# Altium footprint library J 接插件.PcbLib: 458 footprints (part 18 of 29)
Each footprint in its own frame and in the unit in brackets; x right, y up, seen from the top. Pads: shape width x height; smd on the part's side, far side on the other; paste and mask are expansions set on the pad; w line width, h text height; cw(c..) or ccw(c..) is an arc to the next point about the centre after c.
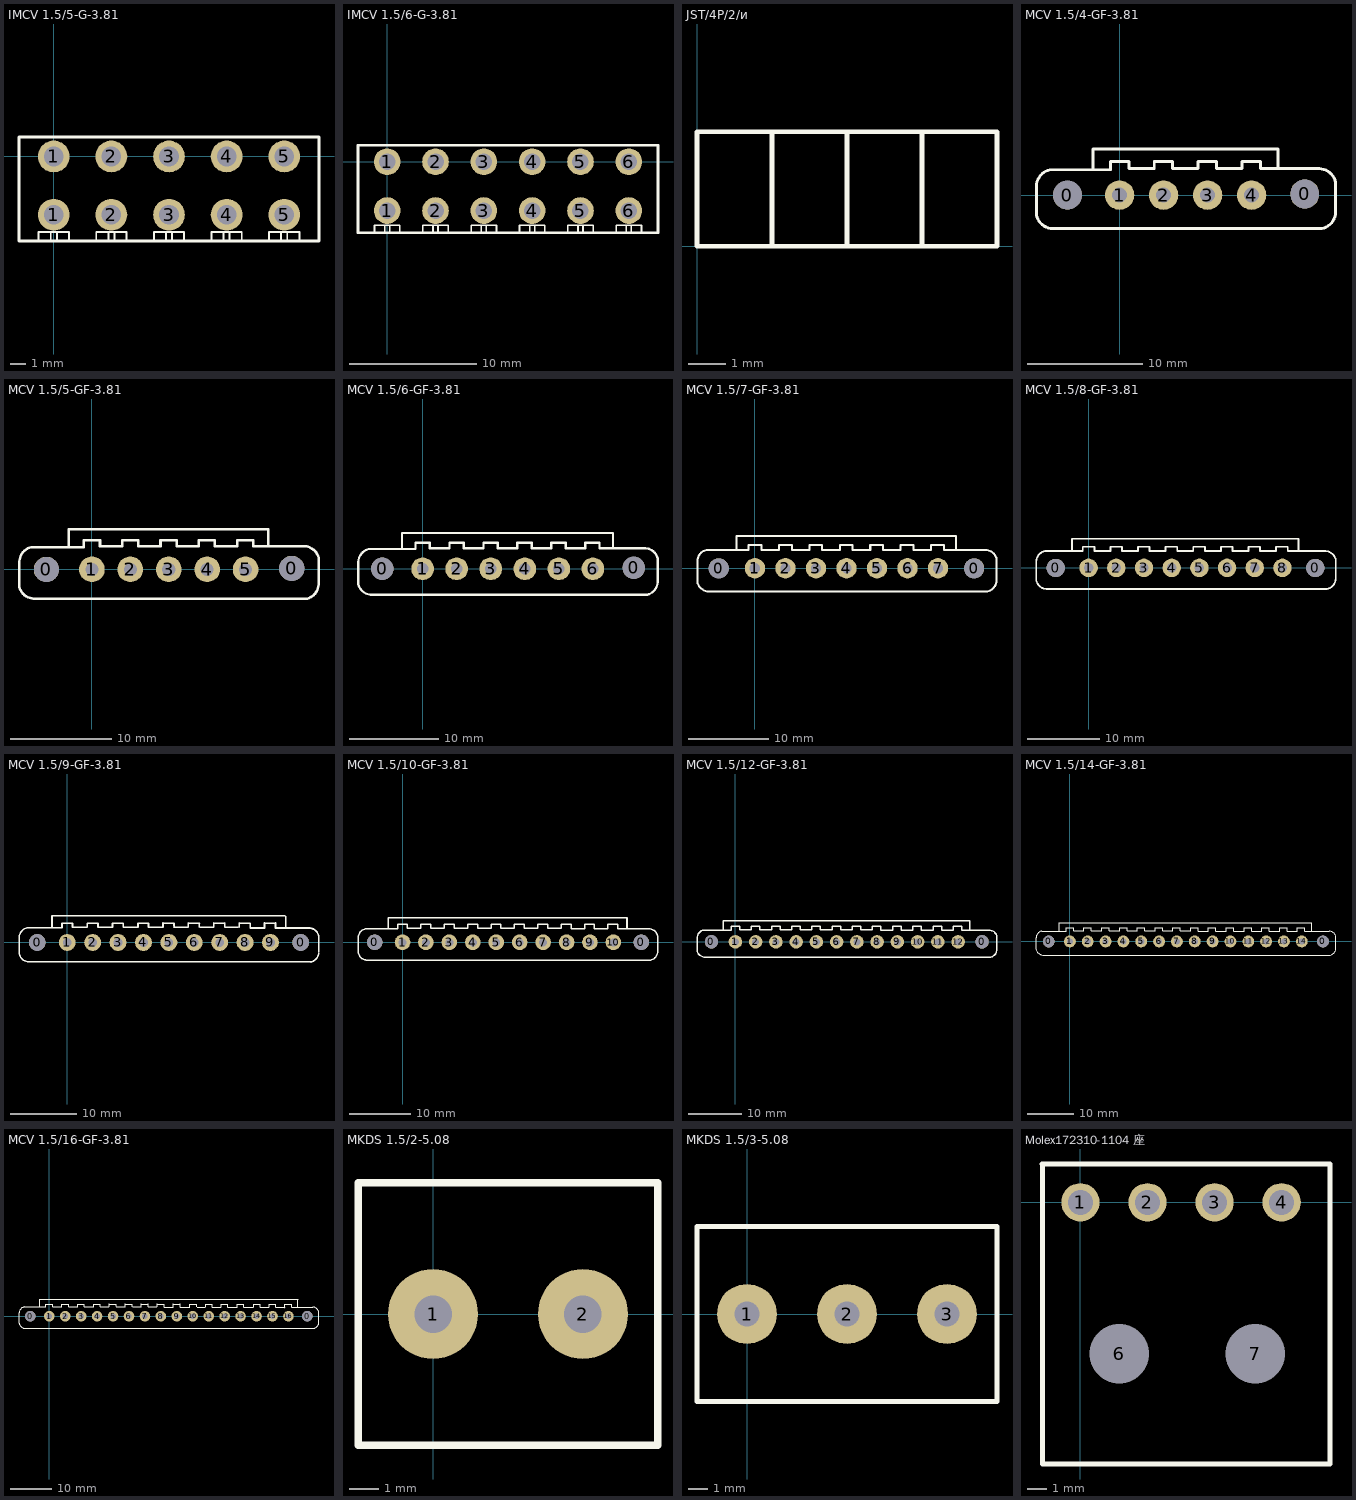
[diagram p17: the footprints below, top view; thin cyan lines are the x and y axes]

## IMCV 1.5/5-G-3.81 [mm] "菲尼克斯端子-3.81"
pads (10):
  round 2.1 hole 1.3: 1(0,-3.85) 1(0,0) 2(3.81,-3.85) 2(3.81,0) 3(7.62,-3.85) 3(7.62,0) 4(11.43,-3.85) 4(11.43,0) 5(15.24,-3.85) 5(15.24,0)
Top Overlay:
  lines w0.127: -1,-5.6 -1,-5 1,-5 1,-5.5 1,-5.6 ; -0.2,-5.6 -0.2,-5 ; 0.2,-5.5 0.2,-5 ; 2.81,-5.6 2.81,-5 4.81,-5 4.81,-5.5 4.81,-5.6 ; 3.61,-5.6 3.61,-5 ; 4.01,-5.5 4.01,-5 ; 6.62,-5.6 6.62,-5 8.62,-5 8.62,-5.5 8.62,-5.6 ; 7.42,-5.6 7.42,-5 ; 7.82,-5.5 7.82,-5 ; 10.43,-5.6 10.43,-5 12.43,-5 12.43,-5.5 12.43,-5.6 ; 11.23,-5.6 11.23,-5 ; 11.63,-5.5 11.63,-5 ; 14.24,-5.6 14.24,-5 16.24,-5 16.24,-5.5 16.24,-5.6 ; 15.04,-5.6 15.04,-5 ; 15.44,-5.5 15.44,-5
  lines w0.203: -2.3,-5.6 -2.3,1.3 17.54,1.3 17.54,-5.6 -2.3,-5.6

## IMCV 1.5/6-G-3.81 [mm] "菲尼克斯端子-3.81"
pads (12):
  round 2.1 hole 1.3: 1(0,-3.85) 1(0,0) 2(3.81,-3.85) 2(3.81,0) 3(7.62,-3.85) 3(7.62,0) 4(11.43,-3.85) 4(11.43,0) 5(15.24,-3.85) 5(15.24,0) 6(19.05,-3.85) 6(19.05,0)
Top Overlay:
  lines w0.127: -1,-5.6 -1,-5 1,-5 1,-5.5 1,-5.6 ; -0.2,-5.6 -0.2,-5 ; 0.2,-5.5 0.2,-5 ; 2.81,-5.6 2.81,-5 4.81,-5 4.81,-5.5 4.81,-5.6 ; 3.61,-5.6 3.61,-5 ; 4.01,-5.5 4.01,-5 ; 6.62,-5.6 6.62,-5 8.62,-5 8.62,-5.5 8.62,-5.6 ; 7.42,-5.6 7.42,-5 ; 7.82,-5.5 7.82,-5 ; 10.43,-5.6 10.43,-5 12.43,-5 12.43,-5.5 12.43,-5.6 ; 11.23,-5.6 11.23,-5 ; 11.63,-5.5 11.63,-5 ; 14.24,-5.6 14.24,-5 16.24,-5 16.24,-5.5 16.24,-5.6 ; 15.04,-5.6 15.04,-5 ; 15.44,-5.5 15.44,-5 ; 18.05,-5.6 18.05,-5 20.05,-5 20.05,-5.5 20.05,-5.6 ; 18.85,-5.6 18.85,-5 ; 19.25,-5.5 19.25,-5
  lines w0.203: 21.336,1.3 -2.3,1.3 -2.3,-5.6 21.35,-5.6 21.35,1.3

## JST/4P/2/ͷ [mil] "接插件"
height 86.61
Top Overlay:
  lines w5: 78.74,0 78.74,120.08 ; 157.48,0 157.48,120.08 ; 236.22,0 236.22,120.08 ; 0,0 314.96,0 314.96,120.08 0,120.08 0,0

## MCV 1.5/4-GF-3.81 [mm] "接线端子"
height 23
pads (6):
  round 2.5 hole 2.5: 0(-4.521,0) 0(16.031,0.1)
  round 2.54 hole 1.3: 1(0,0) 2(3.81,0) 3(7.62,0) 4(11.43,0)
Top Overlay:
  lines w0.254: -7.201,-1.724 ccw(c-5.736,-1.401) -5.8,-2.9 17.5,-2.9 ; -7.2,-1.7 -7.2,0.8 cw(c-5.701,0.736) -6.024,2.201 ; -6,2.2 -2.3,2.2 ; -0.254,-2.9 0.254,-2.9 ; -0.254,4 0.254,4 ; 13.675,4 -2.3,4 -2.3,2.2 ; 13.7,4 13.7,2.3 ; 17.299,2.3 13.7,2.3 ; 17.3,2.3 cw(c17.236,0.801) 18.701,1.124 ; 17.525,-2.9 ccw(c17.202,-1.435) 18.701,-1.499 ; 18.7,-1.5 18.7,1.124 ; -2.3,2.2 -0.8,2.2 -0.8,2.9 0.8,2.9 0.8,2.3 3,2.3 3,2.9 4.6,2.9 4.6,2.3 6.8,2.3 6.8,2.9 8.4,2.9 8.4,2.3 10.6,2.3 10.6,2.9 12.2,2.9 12.2,2.3 13.7,2.3

## MCV 1.5/5-GF-3.81 [mm]
pads (7):
  round 2.5 hole 2.5: 0(-4.521,0) 0(19.821,0.1)
  round 2.54 hole 1.3: 1(0,0) 2(3.81,0) 3(7.62,0) 4(11.43,0) 5(15.24,0)
Top Overlay:
  lines w0.254: -7.201,-1.724 ccw(c-5.736,-1.401) -5.8,-2.9 21.336,-2.9 ; -7.2,-1.7 -7.2,0.8 cw(c-5.701,0.736) -6.024,2.201 ; -6,2.2 -2.3,2.2 ; -4.521,-0.254 -4.521,0.254 ; -0.254,-2.9 0.254,-2.9 ; -0.254,4 0.254,4 ; 18.2,2.3 16,2.3 16,2.9 14.4,2.9 14.4,2.3 12.2,2.3 12.2,2.9 10.6,2.9 10.6,2.3 8.4,2.3 8.4,2.9 6.8,2.9 6.8,2.3 4.6,2.3 4.6,2.9 3,2.9 3,2.3 0.8,2.3 0.8,2.9 -0.8,2.9 -0.8,2.2 -2.3,2.2 ; 19.8,2.3 21.3,2.3 ; 21.089,2.3 17.49,2.3 17.49,4 -2.3,4 -2.3,2.2 ; 21.09,2.3 cw(c21.026,0.801) 22.491,1.124 22.49,-1.5 ; 21.315,-2.9 ccw(c20.992,-1.435) 22.491,-1.499

## MCV 1.5/6-GF-3.81 [mm] "接线端子"
height 23
pads (8):
  round 2.5 hole 2.5: 0(-4.521,0) 0(23.631,0.1)
  round 2.54 hole 1.3: 1(0,0) 2(3.81,0) 3(7.62,0) 4(11.43,0) 5(15.24,0) 6(19.05,0)
Top Overlay:
  lines w0.254: -7.201,-1.724 ccw(c-5.736,-1.401) -5.8,-2.9 25.1,-2.9 ; -7.2,-1.7 -7.2,0.8 cw(c-5.701,0.736) -6.024,2.201 ; -6,2.2 -2.3,2.2 ; -4.521,-0.254 -4.521,0.254 ; -0.254,-2.9 0.254,-2.9 ; -0.254,4 0.254,4 ; 24.899,2.3 21.3,2.3 ; 24.9,2.3 cw(c24.836,0.801) 26.301,1.124 26.3,-1.5 ; 25.125,-2.9 ccw(c24.802,-1.435) 26.301,-1.499 ; -2.3,2.2 -2.3,4 21.3,4 21.3,2.3 ; -2.3,2.2 -0.8,2.2 -0.8,2.9 0.8,2.9 0.8,2.3 3,2.3 3,2.9 4.6,2.9 4.6,2.3 6.8,2.3 6.8,2.9 8.4,2.9 8.4,2.3 10.6,2.3 10.6,2.9 12.2,2.9 12.2,2.3 14.4,2.3 14.4,2.9 16,2.9 16,2.3 18.2,2.3 18.2,2.9 19.8,2.9 19.8,2.3 21.3,2.3

## MCV 1.5/7-GF-3.81 [mm]
pads (9):
  round 2.5 hole 2.5: 0(-4.521,0) 0(27.381,0)
  round 2.54 hole 1.3: 1(0,0) 2(3.81,0) 3(7.62,0) 4(11.43,0) 5(15.24,0) 6(19.05,0) 7(22.86,0)
Top Overlay:
  lines w0.254: -7.201,-1.724 ccw(c-5.736,-1.401) -5.8,-2.9 29.015,-2.9 ccw(c28.692,-1.435) 30.191,-1.499 30.191,1.024 ; -7.2,-1.7 -7.2,0.9 cw(c-5.701,0.836) -6.024,2.301 ; -6,2.3 -2.3,2.3 ; -4.521,-0.254 -4.521,0.254 ; -0.254,-2.9 0.254,-2.9 ; -0.254,4 0.254,4 ; 21.99,2.3 21.99,2.9 23.59,2.9 23.59,2.3 25.09,2.3 ; 25.8,2.3 23.6,2.3 23.6,2.9 22,2.9 22,2.3 19.8,2.3 19.8,2.9 18.2,2.9 18.2,2.3 16,2.3 16,2.9 14.4,2.9 14.4,2.3 12.2,2.3 12.2,2.9 10.6,2.9 10.6,2.3 8.4,2.3 8.4,2.9 6.8,2.9 6.8,2.3 4.6,2.3 4.6,2.9 3,2.9 3,2.3 0.8,2.3 0.8,2.9 -0.8,2.9 -0.8,2.3 -2.3,2.3 ; 27.4,2.3 28.9,2.3 ; 30.191,1.124 ccw(c28.726,0.801) 28.79,2.3 25.09,2.3 ; -2.3,2.3 -2.3,4 25.09,4 25.09,2.3

## MCV 1.5/8-GF-3.81 [mm] "接线端子"
height 23
pads (10):
  round 2.5 hole 2.5: 0(-4.521,0) 0(31.191,0)
  round 2.54 hole 1.3: 1(0,0) 2(3.81,0) 3(7.62,0) 4(11.43,0) 5(15.24,0) 6(19.05,0) 7(22.86,0) 8(26.67,0)
Top Overlay:
  lines w0.254: -7.201,-1.724 ccw(c-5.736,-1.401) -5.8,-2.9 32.825,-2.9 ccw(c32.502,-1.435) 34.001,-1.499 34.001,1.024 ; -7.2,-1.7 -7.2,0.9 cw(c-5.701,0.836) -6.024,2.301 ; -6,2.3 -2.3,2.3 ; -4.521,-0.254 -4.521,0.254 ; -0.254,-2.9 0.254,-2.9 ; -0.254,4 0.254,4 ; 34.001,1.124 ccw(c32.536,0.801) 32.6,2.3 28.9,2.3 ; -2.3,2.3 -2.3,4 28.9,4 28.9,2.3 ; -2.3,2.3 -0.8,2.3 -0.8,2.9 0.8,2.9 0.8,2.3 3,2.3 3,2.9 4.6,2.9 4.6,2.3 6.8,2.3 6.8,2.9 8.4,2.9 8.4,2.3 10.6,2.3 10.6,2.9 12.2,2.9 12.2,2.3 14.4,2.3 14.4,2.9 16,2.9 16,2.3 18.2,2.3 18.2,2.9 19.8,2.9 19.8,2.3 22,2.3 22,2.9 23.6,2.9 23.6,2.3 25.8,2.3 25.8,2.9 27.4,2.9 27.4,2.3 28.9,2.3

## MCV 1.5/9-GF-3.81 [mm]
pads (11):
  round 2.5 hole 2.5: 0(-4.521,0) 0(35.001,0)
  round 2.54 hole 1.3: 1(0,0) 2(3.81,0) 3(7.62,0) 4(11.43,0) 5(15.24,0) 6(19.05,0) 7(22.86,0) 8(26.67,0) 9(30.48,0)
Top Overlay:
  lines w0.254: -7.201,-1.724 ccw(c-5.736,-1.401) -5.8,-2.9 36.576,-2.9 ; -7.2,-1.7 -7.2,0.8 cw(c-5.701,0.736) -6.024,2.201 ; -6,2.2 -2.3,2.2 ; -0.254,-2.9 0.254,-2.9 ; -0.254,4 0.254,4 ; 14.224,2.3 12.2,2.3 12.2,2.9 10.6,2.9 10.6,2.3 8.4,2.3 8.4,2.9 6.8,2.9 6.8,2.3 4.6,2.3 4.6,2.9 3,2.9 3,2.3 0.8,2.3 0.8,2.9 -0.8,2.9 -0.8,2.2 -2.3,2.2 ; 14.351,2.286 14.351,2.921 14.351,2.54 ; 14.44,2.9 16.04,2.9 ; 16.002,2.286 18.161,2.286 18.161,2.921 ; 16.002,2.413 16.002,2.794 ; 18.24,2.9 19.84,2.9 ; 19.812,2.286 19.812,2.794 ; 19.939,2.286 21.971,2.286 21.971,2.921 ; 22.04,2.9 23.64,2.9 ; 23.622,2.921 23.622,2.286 25.654,2.286 ; 25.781,2.286 25.781,2.921 ; 25.84,2.9 27.44,2.9 ; 27.432,2.794 27.432,2.159 29.591,2.159 29.591,2.921 ; 29.65,2.9 31.25,2.9 ; 31.242,2.921 31.242,2.159 36.068,2.159 ; 32.639,4 -2.3,4 -2.3,2.2 ; 32.766,2.237 32.766,3.937 ; 35.941,2.159 36.449,2.159 ; 36.322,2.159 cw(c36.258,0.66) 37.723,0.983 ; 36.543,-2.925 ccw(c36.22,-1.46) 37.719,-1.524 ; 37.719,-1.397 37.719,1.103

## MCV 1.5/10-GF-3.81 [mm] "接线端子"
height 23
pads (12):
  round 2.5 hole 2.5: 0(-4.521,0) 0(38.831,0)
  round 2.54 hole 1.3: 1(0,0) 2(3.81,0) 3(7.62,0) 4(11.43,0) 5(15.24,0) 6(19.05,0) 7(22.86,0) 8(26.67,0) 9(30.48,0) 10(34.29,0)
Top Overlay:
  lines w0.254: -7.201,-1.724 ccw(c-5.736,-1.401) -5.8,-2.9 40.325,-2.9 ; -7.2,-1.7 -7.2,0.8 cw(c-5.701,0.736) -6.024,2.201 ; -6,2.2 -2.3,2.2 ; -4.521,-0.254 -4.521,0.254 ; -0.254,-2.9 0.254,-2.9 ; -0.254,4 0.254,4 ; 40.099,2.2 36.5,2.2 ; 40.1,2.2 cw(c40.036,0.701) 41.501,1.024 ; 40.324,-2.9 ccw(c40.001,-1.435) 41.5,-1.499 41.5,1.024 ; -2.3,2.2 -0.8,2.2 -0.8,2.9 0.8,2.9 0.8,2.3 3,2.3 3,2.9 4.6,2.9 4.6,2.3 6.8,2.3 6.8,2.9 8.4,2.9 8.4,2.3 10.6,2.3 10.6,2.9 12.2,2.9 12.2,2.3 14.4,2.3 14.4,2.9 16,2.9 16,2.3 18.2,2.3 18.2,2.9 19.8,2.9 19.8,2.3 22,2.3 22,2.9 23.6,2.9 23.6,2.3 25.8,2.3 25.8,2.9 27.4,2.9 27.4,2.2 29.6,2.2 29.6,2.9 31.2,2.9 31.2,2.2 33.4,2.2 33.4,2.9 35,2.9 35,2.2 36.5,2.2 ; -2.3,2.2 -2.3,4 36.5,4 36.5,2.2

## MCV 1.5/12-GF-3.81 [mm] "接线端子"
height 23
pads (14):
  round 2.5 hole 2.5: 0(-4.521,0) 0(46.431,0)
  round 2.54 hole 1.3: 1(0,0) 2(3.81,0) 3(7.62,0) 4(11.43,0) 5(15.24,0) 6(19.05,0) 7(22.86,0) 8(26.67,0) 9(30.48,0) 10(34.29,0) 11(38.1,0) 12(41.91,0)
Top Overlay:
  lines w0.127: 44.094,4 44.1,3.994
  lines w0.254: -7.201,-1.724 ccw(c-5.736,-1.401) -5.8,-2.9 48.025,-2.9 ccw(c47.702,-1.435) 49.201,-1.499 49.201,1.024 ccw(c47.736,0.701) 47.8,2.2 44.1,2.2 ; -7.2,-1.7 -7.2,0.8 cw(c-5.701,0.736) -6.024,2.201 ; -6,2.2 -2.3,2.2 ; -4.521,-0.254 -4.521,0.254 ; -0.254,-2.9 0.254,-2.9 ; -0.254,4 0.254,4 ; -2.3,2.2 -2.3,4 44.1,4 44.1,2.2 ; -2.3,2.2 -0.8,2.2 -0.8,2.9 0.8,2.9 0.8,2.3 3,2.3 3,2.9 4.6,2.9 4.6,2.3 6.8,2.3 6.8,2.9 8.4,2.9 8.4,2.3 10.6,2.3 10.6,2.9 12.2,2.9 12.2,2.3 14.4,2.3 14.4,2.9 16,2.9 16,2.3 18.2,2.3 18.2,2.9 19.8,2.9 19.8,2.3 22,2.3 22,2.9 23.6,2.9 23.6,2.3 25.8,2.3 25.8,2.9 27.4,2.9 27.4,2.2 29.6,2.2 29.6,2.9 31.2,2.9 31.2,2.2 33.4,2.2 33.4,2.9 35,2.9 35,2.2 37.2,2.2 37.2,2.9 38.8,2.9 38.8,2.2 41,2.2 41,2.9 42.6,2.9 42.6,2.2 44.1,2.2

## MCV 1.5/14-GF-3.81 [mm] "接线端子"
height 23
pads (16):
  round 2.5 hole 2.5: 0(-4.521,0) 0(54.051,0)
  round 2.54 hole 1.3: 1(0,0) 2(3.81,0) 3(7.62,0) 4(11.43,0) 5(15.24,0) 6(19.05,0) 7(22.86,0) 8(26.67,0) 9(30.48,0) 10(34.29,0) 11(38.1,0) 12(41.91,0) 13(45.72,0) 14(49.53,0)
Top Overlay:
  lines w0.127: 44.094,4 44.1,3.994
  lines w0.254: -7.201,-1.724 ccw(c-5.736,-1.401) -5.8,-2.9 55.625,-2.9 ccw(c55.302,-1.435) 56.801,-1.499 56.801,1.024 ccw(c55.336,0.701) 55.4,2.2 51.7,2.2 ; -7.2,-1.7 -7.2,0.8 cw(c-5.701,0.736) -6.024,2.201 ; -6,2.2 -2.3,2.2 ; -4.521,-0.254 -4.521,0.254 ; -0.254,-2.9 0.254,-2.9 ; -0.254,4 0.254,4 ; -2.3,2.2 -0.8,2.2 -0.8,2.9 0.8,2.9 0.8,2.3 3,2.3 3,2.9 4.6,2.9 4.6,2.3 6.8,2.3 6.8,2.9 8.4,2.9 8.4,2.3 10.6,2.3 10.6,2.9 12.2,2.9 12.2,2.3 14.4,2.3 14.4,2.9 16,2.9 16,2.3 18.2,2.3 18.2,2.9 19.8,2.9 19.8,2.3 22,2.3 22,2.9 23.6,2.9 23.6,2.3 25.8,2.3 25.8,2.9 27.4,2.9 27.4,2.2 29.6,2.2 29.6,2.9 31.2,2.9 31.2,2.2 33.4,2.2 33.4,2.9 35,2.9 35,2.2 37.2,2.2 37.2,2.9 38.8,2.9 38.8,2.2 41,2.2 41,2.9 42.6,2.9 42.6,2.2 44.8,2.2 44.8,2.9 46.4,2.9 46.4,2.2 48.6,2.2 48.6,2.9 50.2,2.9 50.2,2.2 51.7,2.2 ; -2.3,2.2 -2.3,4 51.7,4 51.7,2.2

## MCV 1.5/16-GF-3.81 [mm]
pads (18):
  round 2.5 hole 2.5: 0(-4.521,0) 0(61.671,0)
  round 2.54 hole 1.3: 1(0,0) 2(3.81,0) 3(7.62,0) 4(11.43,0) 5(15.24,0) 6(19.05,0) 7(22.86,0) 8(26.67,0) 9(30.48,0) 10(34.29,0) 11(38.1,0) 12(41.91,0) 13(45.72,0) 14(49.53,0) 15(53.34,0) 16(57.15,0)
Top Overlay:
  lines w0.254: -7.201,-1.724 ccw(c-5.736,-1.401) -5.8,-2.9 63.246,-2.9 ; -7.2,-1.7 -7.2,0.8 cw(c-5.701,0.736) -6.024,2.201 ; -6,2.2 -2.3,2.2 ; -0.254,-2.9 0.254,-2.9 ; -0.254,4 0.254,4 ; 14.224,2.3 12.2,2.3 12.2,2.9 10.6,2.9 10.6,2.3 8.4,2.3 8.4,2.9 6.8,2.9 6.8,2.3 4.6,2.3 4.6,2.9 3,2.9 3,2.3 0.8,2.3 0.8,2.9 -0.8,2.9 -0.8,2.2 -2.3,2.2 ; 14.351,2.286 14.351,2.921 14.351,2.54 ; 14.44,2.9 16.04,2.9 ; 16.002,2.286 18.161,2.286 18.161,2.921 ; 16.002,2.413 16.002,2.794 ; 18.24,2.9 19.84,2.9 ; 19.812,2.286 19.812,2.794 ; 19.939,2.286 21.971,2.286 21.971,2.921 ; 22.04,2.9 23.64,2.9 ; 23.622,2.921 23.622,2.286 25.654,2.286 ; 25.781,2.286 25.781,2.921 ; 25.84,2.9 27.44,2.9 ; 27.432,2.794 27.432,2.159 29.591,2.159 29.591,2.921 ; 29.65,2.9 31.25,2.9 ; 31.242,2.921 31.242,2.159 33.528,2.159 ; 33.587,2.218 33.587,2.9 35.187,2.9 35.187,2.278 ; 35.306,2.159 37.211,2.159 ; 35.941,2.159 36.449,2.159 ; 37.397,2.1 37.397,2.9 38.997,2.9 38.997,2.167 41.004,2.167 ; 41.08,2.091 41.08,2.9 42.68,2.9 42.68,2.167 44.814,2.167 44.89,2.091 44.89,2.9 46.49,2.9 46.49,2.167 48.76,2.167 ; 48.827,2.1 48.827,2.9 50.427,2.9 50.427,2.167 52.459,2.167 52.51,2.218 52.51,2.9 54.11,2.9 54.11,2.167 54.102,2.159 56.134,2.159 56.261,2.032 56.32,2.091 56.32,2.9 57.92,2.9 57.92,2.167 57.912,2.159 63.018,2.159 ; 59.436,2.237 59.436,3.937 59.373,4 32.639,4 -2.3,4 -2.3,2.2 ; 63.021,2.156 cw(c62.957,0.657) 64.422,0.98 64.422,-1.52 cw(c62.923,-1.456) 63.246,-2.921

## MKDS 1.5/2-5.08 [mil]
height 531.5
pads (2):
  round 120 hole 50: 1(0,0) 2(200,0)
Top Overlay:
  lines w10: -100,-175 -100,175 300,175 300,-175 -100,-175

## MKDS 1.5/3-5.08 [mil]
height 531.5
pads (3):
  round 120 hole 50: 1(0,0) 2(200,0) 3(400,0)
Top Overlay:
  lines w10: -100,-175 500,-175 500,175 -100,175 -100,-175

## Molex172310-1104 座 [mm] "莫仕连接器 Molex172310-1104 座"
height 10
pads (6):
  round 2 hole 1.3: 1(0,0) 2(3.5,0) 3(7,0) 4(10.5,0)
  round 2 hole 3.1: 6(2.02,-7.91) 7(9.12,-7.91)
Top Overlay:
  lines w0.254: -2,2 13,2 ; -1.98,2 -1.98,-13.66 13.02,-13.66 13.02,2